# EAGLE library part M24C01/02-X (library project)
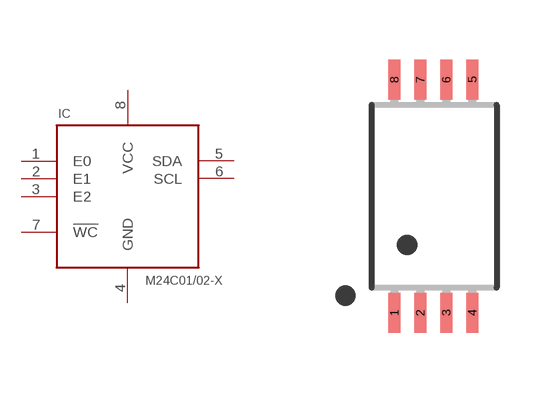
[diagram p4: symbol with the pads of TSSOP08; footprint TSSOP08]

Designator prefix IC

## M24C01/02-XTSSOP08  [TSSOP08]
1  E0
2  E1
3  E2
4  GND
5  SDA
6  SCL
7  !WC
8  VCC

## Footprint TSSOP08 (pad centres in mm)
TSSOP (Thin Shrink Small Outline Plastic) - 14 Specifications: Pin count:14 Example device(s): TXB0104PWR
smd 0.305 x 0.991: 1 -0.961,-2.718; 2 -0.311,-2.718; 3 0.339,-2.718; 4 0.989,-2.718; 5 0.989,3.118; 6 0.339,3.118; 7 -0.311,3.118; 8 -0.961,3.118